# Altium integrated library LED PD GTL WH 3000148 (4F00222L_7P00492A).IntLib: 4 symbols
Pins are listed as number, name and electrical type; pins without a type are passive.

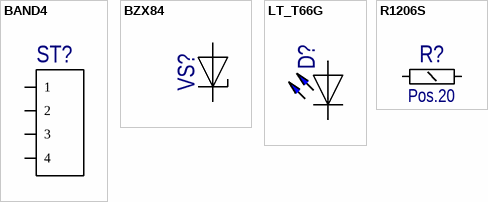
[diagram p0: symbols BAND4 to R1206S]

## BAND4
designator ST?  (value not drawn)
Value: *
footprint BAND4
pins: 1, 2, 3, 4, 5 hidden, 6 hidden, 7 hidden, 8 hidden

## BZX84
designator VS?  (value not drawn)
OriginalName: DIODE; Value: *
footprint SOT23
pins: 1, 2 hidden, 3

## LT_T66G
designator D?  (value not drawn)
{Description}
footprint T66G
pins: 1, 2

## R1206S
designator R?  value Pos.20  (hidden comment: R1206S)
footprint RC1206S
pins: 1, 2